# EAGLE library part MIC5528-3.3YMT-T5 (library MIC5528-3.3YMT-T5)
LDO Voltage Regulators Single, 500mA LDO w/ Auto Discharge & Internal Enable Pulldown Source: Datasheet
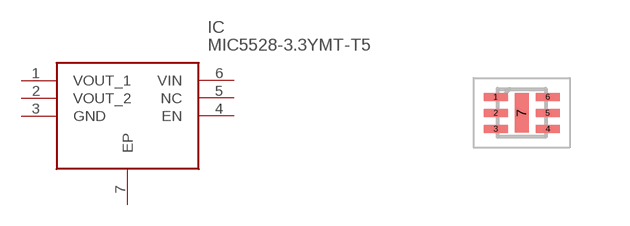
[diagram p0: symbol with the pads of SON40P120X120X60-7N; footprint SON40P120X120X60-7N]

Designator prefix IC

## MIC5528-3.3YMT-T5 (Description: LDO Voltage Regulators Single, 500mA LDO w/ Auto Discharge & Internal Enable Pulldown; Height: 0.6mm; Manufacturer_Name: Microchip; Manufacturer_Part_Number: MIC5528-3.3YMT-T5; Mouser_Part_Number: 998-MIC5528-3.3YMTT5; Mouser_Price-Stock: https://www.mouser.co.uk/ProductDetail/Microchip-Technology/MIC5528-3.3YMT-T5?qs=U6T8BxXiZAUrsVLummtswg%3D%3D)  [SON40P120X120X60-7N]
1  VOUT_1
2  VOUT_2
3  GND
4  EN
5  NC  nc
6  VIN
7  EP

## Footprint SON40P120X120X60-7N (pad centres in mm)
MIC5528-3.3YMT-T5 6pin
smd 0.6 x 0.2: 1 -0.65,0.4; 2 -0.65,0; 3 -0.65,-0.4; 4 0.65,-0.4; 5 0.65,0; 6 0.65,0.4
smd 0.35 x 0.99: 7 0,0